# Altium footprint library 0.PCB1.PcbLib: 64 footprints (part 4 of 4)
Each footprint in its own frame and in the unit in brackets; x right, y up, seen from the top. Pads: shape width x height; smd on the part's side, far side on the other; paste and mask are expansions set on the pad; w line width, h text height; cw(c..) or ccw(c..) is an arc to the next point about the centre after c.
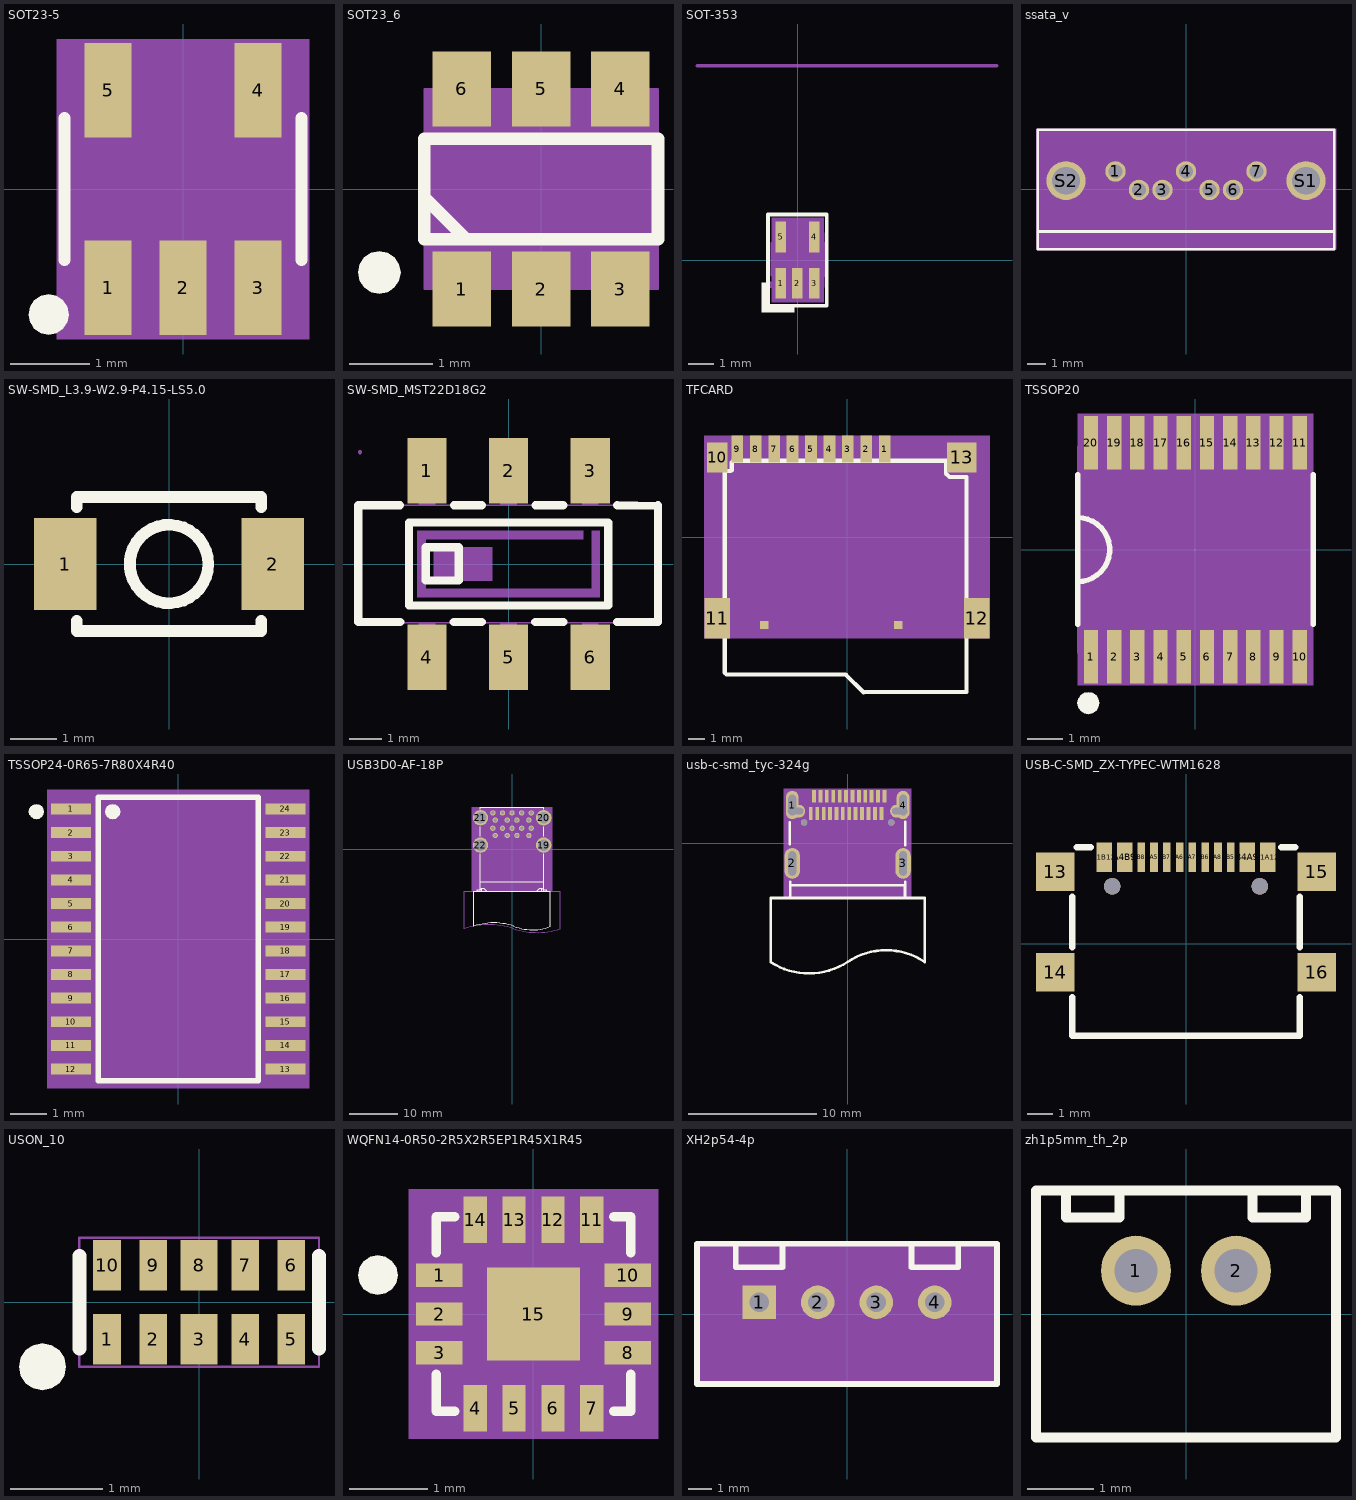
[diagram p3: the footprints below, top view; thin cyan lines are the x and y axes]

## SOT23-5 [mm] "SOT23-5"
pads (5):
  rect 0.599x1.199 smd: 1(-0.95,-1.25) 2(0,-1.25) 3(0.95,-1.25) 4(0.95,1.25) 5(-0.95,1.25)
Top Overlay:
  dashed: -1.702,-1.336 -1.799,-1.355 -1.882,-1.411 -1.937,-1.493 -1.957,-1.591 -1.937,-1.688 -1.919,-1.716 -1.882,-1.771 -1.799,-1.826 -1.702,-1.846 -1.604,-1.826 -1.522,-1.771 -1.485,-1.716 -1.466,-1.688 -1.447,-1.591 -1.466,-1.493 -1.522,-1.411 -1.604,-1.355
  lines w0.15: -1.5,-0.9 -1.5,0.9 ; 1.5,-0.9 1.5,0.9
Top 3D Body:
  region: -1.6,1.9 -1.6,-1.9 1.6,-1.9 1.6,1.9
Top Assembly:
  lines w0.15: -1.5,-0.85 1.5,-0.85 1.5,0.85 -1.5,0.85 -1.5,-0.85
3D body: height 3.81, standoff 0, extent -1.6,-1.9 1.6,1.9

## SOT23_6 [mm] "SOT23_6"
pads (6):
  rect 0.7x0.9 smd: 1(-0.95,-1.2) 2(0,-1.2) 3(0.95,-1.2) 4(0.95,1.2) 5(0,1.2) 6(-0.95,1.2)
Top Overlay:
  dashed: -2.195,-1 -2.176,-1.098 -2.12,-1.18 -2.038,-1.236 -1.94,-1.255 -1.842,-1.236 -1.815,-1.217 -1.76,-1.18 -1.704,-1.098 -1.685,-1 -1.704,-0.902 -1.76,-0.82 -1.815,-0.783 -1.842,-0.764 -1.94,-0.745 -2.038,-0.764 -2.12,-0.82 -2.176,-0.902
  lines w0.15: -1.4,-0.1 -0.9,-0.6 ; -1.4,-0.6 -1.4,0.6 1.4,0.6 1.4,-0.6 -1.4,-0.6
Top 3D Body:
  region: -1.4,-1.2 1.4,-1.2 1.4,1.2 -1.4,1.2
Top Assembly:
  lines w0.025: -1.4,-1.2 1.4,-1.2 1.4,1.2 -1.4,1.2 -1.4,-1.2
3D body: height 3.81, standoff 0, extent -1.4,-1.2 1.4,1.2

## SOT-353 [mil] "SOT-353"
pads (5):
  rect 16x47 smd: 1(-25.91,-35.43) 2(-0.32,-35.43) 3(25.28,-35.43) 4(25.28,35.43) 5(-25.91,35.43)
Top Overlay:
  dashed: -45.31,-35 -55.31,-35 -55.31,-80 -5.32,-80 -5.32,-70 -45.31,-70
  lines w6: -45.31,-70 -45.31,70 44.69,70 44.69,-70 -45.31,-70
Mechanical 5:
  dashed: -39.69,-65 39.69,-65 39.69,65 -39.69,65
Top 3D Body:
  region: -39.69,-65 39.69,-65 39.69,65 -39.69,65
Top Component Center:
  circle w1: c-0.32,0 r11.81
  circle w1: c-0.32,0 r11.81
  lines w1: -16.06,0 15.43,0 -16.06,0 ; -0.32,-15.75 -0.32,15.75 -0.32,-15.75
Mechanical 18:
  lines w5: -154.31,298 305.69,298
Top Assembly:
  circle w3.94: c-41.31,-38 r2.83
  lines w3.94: -32.31,-24 -32.31,-40.83 -20.32,-40.83 ; -31.5,26 -31.5,40.83 ; -31.5,41.83 -19.5,41.83 -19.5,26 ; -20.32,-40 -20.32,-25 ; -6.32,-24 -6.32,-40.83 5.68,-40.83 ; 5.68,-40 5.68,-24 ; 19.68,-24 19.68,-40.83 31.68,-40.83 ; 19.68,26 19.68,41 ; 19.68,41.83 31.68,41.83 31.68,26 ; 31.68,-40 31.68,-24 ; -39.31,-23.61 -39.31,25.61 40.69,25.61 40.69,-23.61 -39.31,-23.61
Bottom Assembly:
  lines w1: -39.31,-41 -39.31,42 40.69,42 40.69,-41 -39.31,-41
3D body: height 150, standoff 0, extent -39.69,-65 39.69,65

## ssata_v [mm] "SSATA_V"
pads (9):
  round 1.1 hole 0.75: 1(-3.81,0.95) 2(-2.54,-0.05) 3(-1.27,-0.05) 4(0,0.95) 5(1.27,-0.05) 6(2.54,-0.05) 7(3.81,0.95)
  round 2.1 hole 1.5: S1(6.48,0.45) S2(-6.48,0.45)
Top Overlay:
  lines w0.15: -8,-2.3 8,-2.3 ; -8,-3.25 -8,3.2 8,3.2 8,-3.25 -8,-3.25
Bottom Overlay:
  lines w0.3: -3.6,0.05 -2.8,0.85 ; -1,0.85 -0.2,0.05 0.2,0.05 1,0.85 ; 2.8,0.85 3.6,0.05
Top 3D Body:
  region: -8.1,3.25 -8.1,-3.25 8.1,-3.25 8.1,3.25
Top Assembly:
  lines w0.15: -8,3.2 -8,-3.25 8,-3.25 8,-2.3 ; -8,3.2 -8,-2.3 8,-2.3 ; -8,3.2 8,3.2 8,-2.3 ; -8,-1.55 -8,2.45 8,2.45 8,-1.55 -8,-1.55
3D body: height 3.81, standoff 0, extent -8.1,-3.25 8.1,3.25

## SW-SMD_L3.9-W2.9-P4.15-LS5.0 [mm]
pads (2):
  rect 1.35x2 smd paste+0 mask+0.051: 1(-2.25,0) 2(2.25,0)
Top Overlay:
  circle w0.254: c0,0 r0.85
  lines w0.254: -2,-1.231 -2,-1.45 2,-1.45 2,-1.231 ; -2,1.231 -2,1.45 2,1.45 2,1.231

## SW-SMD_MST22D18G2 [mm]
pads (6):
  rect 1.2x2 smd: 1(-2.5,2.85) 2(0,2.85) 3(2.5,2.85) 4(-2.5,-2.85) 5(0,-2.85) 6(2.5,-2.85)
Top Overlay:
  lines w0.254: -3.326,1.8 -4.6,1.8 -4.6,-1.778 -3.319,-1.778 ; -1.681,-1.778 -0.819,-1.778 ; -1.674,1.8 -0.826,1.8 ; 0.819,-1.778 1.681,-1.778 ; 0.826,1.8 1.674,1.8 ; 3.319,-1.778 4.572,-1.778 4.572,1.8 ; 3.326,1.8 4.572,1.778 ; -3.048,-1.27 -3.048,1.27 3.048,1.27 3.048,-1.27 -3.048,-1.27 ; -2.54,-0.508 -2.54,0.508 -1.524,0.508 -1.524,-0.508 -2.54,-0.508
Mechanical 6:
  region: -2.54,1.016 -2.794,1.016 -2.794,-1.016 2.794,-1.016 2.794,1.016 2.54,1.016 2.54,-0.762 -2.54,-0.762 -2.54,0.762 2.286,0.762 2.286,1.016
  region: -2.286,0.508 -2.286,-0.508 -0.508,-0.508 -0.508,0.508
Mechanical 15:
  region: -4.49,3.425 -4.49,3.45 -4.525,3.485 -4.575,3.485 -4.61,3.45 -4.61,3.425 -4.61,3.4 -4.575,3.365 -4.525,3.365 -4.49,3.4 -4.49,3.425
  region: -2.75,-2.635 -2.75,-1.79 -2.25,-1.79 -2.25,-2.635
  region: -2.75,-3.425 -2.75,-2.625 -2.25,-2.625 -2.25,-3.425
  region: 2.25,1.79 2.25,2.635 2.75,2.635 2.75,1.79
  region: 2.25,2.625 2.25,3.425 2.75,3.425 2.75,2.625
  region: -0.25,1.79 -0.25,2.635 0.25,2.635 0.25,1.79
  region: -0.25,2.625 -0.25,3.425 0.25,3.425 0.25,2.625
  region: -2.75,1.79 -2.75,2.635 -2.25,2.635 -2.25,1.79
  region: -2.75,2.625 -2.75,3.425 -2.25,3.425 -2.25,2.625
  region: 2.25,-2.635 2.25,-1.79 2.75,-1.79 2.75,-2.635
  region: 2.25,-3.425 2.25,-2.625 2.75,-2.625 2.75,-3.425
  region: -0.25,-2.635 -0.25,-1.79 0.25,-1.79 0.25,-2.635
  region: -0.25,-3.425 -0.25,-2.625 0.25,-2.625 0.25,-3.425
  lines w0.051: -4.55,-1.8 -4.55,1.8 4.55,1.8 4.55,-1.8 -4.55,-1.8

## TFCARD [mil] "TFCARD"
pads (15):
  rect 27.56x62.99 smd: 1(88.58,206.82) 2(45.27,206.82) 3(1.97,206.82) 4(-41.34,206.82) 5(-84.65,206.82) 6(-127.95,206.82) 7(-171.26,206.82) 8(-214.57,206.82) 9(-257.88,206.82)
  rect 47.24x70 smd: 10(-305.12,187.13)
  rect 60x95 smd: 11(-305.12,-190.82) 12(305.12,-190.82)
  rect 70x70 smd: 13(269.68,187.13)
  rect 19.68x19.68 smd: ""(-194.88,-206.57) ""(120.08,-206.57)
Top Overlay:
  lines w10: -289.12,155.18 -273.12,155.18 -271.12,157.18 -271.12,175.18 -267.12,179.18 232.88,179.18 232.88,149.18 240.88,141.18 280.88,141.18 280.88,-364.05 38.88,-364.82 -3.12,-322.82 -283.12,-322.82 -287.12,-318.82 -287.12,153.18 -289.12,155.18
Top 3D Body:
  region: -335.12,-238.31 335.12,-238.31 335.12,238.31 -335.12,238.31
3D body: height 150, standoff 0, extent -335.12,-238.31 335.12,238.31

## TSSOP20 [mm] "TSSOP20"
pads (20):
  rect 0.4x1.5 smd: 1(-2.925,-3) 2(-2.275,-3) 3(-1.625,-3) 4(-0.975,-3) 5(-0.325,-3) 6(0.325,-3) 7(0.975,-3) 8(1.625,-3) 9(2.275,-3) 10(2.925,-3) 11(2.925,3) 12(2.275,3) 13(1.625,3) 14(0.975,3) 15(0.325,3) 16(-0.325,3) 17(-0.975,3) 18(-1.625,3) 19(-2.275,3) 20(-2.925,3)
Top Overlay:
  dashed: -3,-4.606 -2.883,-4.583 -2.784,-4.516 -2.717,-4.417 -2.694,-4.3 -2.717,-4.183 -2.74,-4.15 -2.784,-4.084 -2.883,-4.017 -3,-3.994 -3.117,-4.017 -3.216,-4.084 -3.26,-4.15 -3.283,-4.183 -3.306,-4.3 -3.283,-4.417 -3.216,-4.516 -3.117,-4.583
  lines w0.15: -3.3,-2.1 -3.3,2.1 ; -3.3,-0.9 ccw(c-3.3,0) -3.3,0.9 ; 3.3,-2.1 3.3,2.1
Top 3D Body:
  region: -3.3,-3.8 3.3,-3.8 3.3,3.8 -3.3,3.8
Top Assembly:
  lines w0.025: -3.3,-2.9 -3.3,2.9 3.3,2.9 3.3,-2.9 -3.3,-2.9
3D body: height 3.81, standoff 0, extent -3.3,-3.8 3.3,3.8

## TSSOP24-0R65-7R80X4R40 [mm] "TSSOP24-0R65-7R80X4R40"
pads (24):
  rect 1.1x0.3 smd: 1(-2.95,3.575) 2(-2.95,2.925) 3(-2.95,2.275) 4(-2.95,1.625) 5(-2.95,0.975) 6(-2.95,0.325) 7(-2.95,-0.325) 8(-2.95,-0.975) 9(-2.95,-1.625) 10(-2.95,-2.275) 11(-2.95,-2.925) 12(-2.95,-3.575) 13(2.95,-3.575) 14(2.95,-2.925) 15(2.95,-2.275) 16(2.95,-1.625) 17(2.95,-0.975) 18(2.95,-0.325) 19(2.95,0.325) 20(2.95,0.975) 21(2.95,1.625) 22(2.95,2.275) 23(2.95,2.925) 24(2.95,3.575)
Top Overlay:
  dashed: -1.8,3.704 -1.878,3.688 -1.944,3.644 -1.988,3.578 -2.004,3.5 -1.988,3.422 -1.974,3.4 -1.944,3.356 -1.878,3.312 -1.8,3.296 -1.722,3.312 -1.656,3.356 -1.626,3.4 -1.612,3.422 -1.596,3.5 -1.612,3.578 -1.656,3.644 -1.722,3.688
  dashed: -3.9,3.704 -3.978,3.688 -4.044,3.644 -4.088,3.578 -4.104,3.5 -4.088,3.422 -4.074,3.4 -4.044,3.356 -3.978,3.312 -3.9,3.296 -3.822,3.312 -3.756,3.356 -3.726,3.4 -3.712,3.422 -3.696,3.5 -3.712,3.578 -3.756,3.644 -3.822,3.688
  lines w0.15: -2.2,-3.9 2.2,-3.9 2.2,3.9 -2.2,3.9 -2.2,-3.9
Top 3D Body:
  region: -3.6,4.1 -3.6,-4.1 3.6,-4.1 3.6,4.1
Top Assembly:
  lines w0.15: -3.2,-3.9 3.2,-3.9 3.2,3.9 -3.2,3.9 -3.2,-3.9
3D body: height 3.81, standoff 0, extent -3.6,-4.1 3.6,4.1

## USB3D0-AF-18P [mm] "USB3D0-AF-18P"
pads (22):
  round 1.1 hole 0.7: 1(-3.5,2.899) 2(-1.001,2.899) 3(1.001,2.899) 4(3.5,2.899) 5(4,4.401) 6(1.999,4.401) 7(0,4.401) 8(-1.999,4.401) 9(-4,4.401) 10(-3.5,6.1) 11(-1.001,6.1) 12(1.001,6.1) 13(3.5,6.1) 14(4,7.601) 15(1.999,7.601) 16(0,7.601) 17(-1.999,7.601) 18(-4,7.601)
  round 3.2 / inner round 1.524 / far side round 3.2 hole 2.4: 19(6.571,0.9) 20(6.571,6.58) 21(-6.571,6.58) 22(-6.571,0.9)
Top Overlay:
  lines w0.15: -7.257,-8.719 -6.284,-8.719 -6.284,-8.091 -5.86,-8.091 -5.235,-8.719 5.067,-8.719 ; -7.257,-8.388 -6.617,-8.388 -6.284,-8.056 ; -6.571,-0.931 -6.571,-3.299 -6.571,-4.379 -6.571,-8.719 -6.571,-6.719 6.571,-6.719 6.571,-8.719 6.571,-4.879 6.571,-3.999 6.571,-0.931 ; -6.571,2.732 -6.571,4.749 ; -6.571,8.411 -6.571,8.774 6.571,8.774 6.571,8.411 ; 5.169,-8.719 5.796,-8.091 6.218,-8.091 6.218,-8.719 7.193,-8.719 ; 6.218,-8.056 6.551,-8.388 7.193,-8.388 ; 6.571,2.732 6.571,4.749 ; -8,-16.019 cw(c-3.773,-28.033) 0.4,-15.999 ccw(c4.224,-6.389) 8,-16.019 8,-8.719 0,-8.719 -8,-8.719 -8,-16.019
  lines w0.254: -7.257,-8.719 -7.257,-8.388 ; 7.193,-8.719 7.193,-8.388
Bottom Overlay:
  drawing of 19 lines, arcs and shapes, not listed
Top 3D Body:
  region: -8.4,8.8 -8.4,-8.8 8.4,-8.8 8.4,8.8
Top Assembly:
  lines w0.15: -10,-16.519 cw(c-4.77,-32.788) 0.4,-16.499 ccw(c5.228,-2.363) 10,-16.519 10,-8.719 0,-8.719 -10,-8.719 -10,-16.519
3D body: height 3.81, standoff 0, extent -8.4,-8.8 8.4,8.8

## usb-c-smd_tyc-324g [mm] "USB-C-SMD_TYC-324G"
pads (32):
  oval 1x2.2 hole 1.6 slot 0.6 at 0 deg: 1(-4.32,2.99) 4(4.32,2.99)
  oval 1.2x2.4 / inner round 1.524 / far side oval 1.2x2.4 hole 1.9 slot 0.6 at 0 deg: 2(-4.32,-1.56) 3(4.32,-1.56)
  rect 0.3x1 smd: A1(-2.62,3.68) A2(-2.13,3.68) A3(-1.63,3.68) A4(-1.13,3.68) A5(-0.62,3.68) A6(-0.12,3.68) A7(0.38,3.68) A8(0.88,3.68) A9(1.37,3.68) A10(1.87,3.68) A11(2.37,3.68) A12(2.88,3.68) B1(2.63,2.34) B2(2.13,2.34) B3(1.63,2.34) B4(1.13,2.34) B5(0.62,2.34) B6(0.12,2.34) B7(-0.38,2.34) B8(-0.87,2.34) B9(-1.37,2.34) B10(-1.87,2.34) B11(-2.37,2.34) B12(-2.88,2.34)
  oval 1.5x1 hole 0.5 slot 1.2 at 0 deg: ""(-4.06,2.51) ""(4.06,2.51)
  round 0.5 hole 0.5 unplated: ""(-3.4,1.63) ""(3.4,1.63)
Top Overlay:
  lines w0.2: -4.5,-0.06 -4.5,1.65 ; -4.47,-3 -4.47,-3.26 ; 4.5,-2.98 4.5,-4.24 4.47,-4.26 ; 4.5,-0.14 4.5,1.67 ; 6,-9.26 6,-4.26 -6,-4.26 -6,-9.26 ccw(c-3.015,-4.643) 0,-9.24 cw(c3,-13.74) 6,-9.24 ; -4.47,-3.26 4.47,-3.26 4.47,-4.26 ; -4.47,-3.26 -4.47,-4.26 4.47,-4.26
Top 3D Body:
  region: -4.97,-4.24 4.97,-4.24 4.97,4.24 -4.97,4.24
3D body: height 3.81, standoff 0, extent -4.97,-4.24 4.97,4.24

## USB-C-SMD_ZX-TYPEC-WTM1628 [mm]
pads (18):
  rect 1.5x1.5 smd paste+0 mask+0.051: 13(-5.12,2.817) 14(-5.12,-1.113) 15(5.12,2.817) 16(5.12,-1.113)
  rect 0.6x1.15 smd paste+0 mask+0.051: A1B12(-3.2,3.392) A4B9(-2.4,3.392) B1A12(3.2,3.392) B4A9(2.4,3.392)
  rect 0.3x1.15 smd paste+0 mask+0.051: A5(-1.25,3.392) A6(-0.25,3.392) A7(0.25,3.392) A8(1.25,3.392) B5(1.75,3.392) B6(0.75,3.392) B7(-0.75,3.392) B8(-1.75,3.392)
  round 0.65 hole 0.65 unplated paste+0: ""(-2.89,2.249) ""(2.89,2.249)
Top Overlay:
  lines w0.254: -4.445,-2.094 -4.445,-3.593 4.455,-3.593 4.455,-2.094 ; -4.445,-0.132 -4.445,1.836 ; -4.268,3.773 -3.731,3.773 ; 3.731,3.773 4.268,3.773 ; 4.455,-0.132 4.455,1.836

## USON_10 [mm] "USON_10"
pads (10):
  rect 0.3x0.55 smd: 1(-1,-0.4) 2(-0.5,-0.4) 4(0.5,-0.4) 5(1,-0.4) 6(1,0.4) 7(0.5,0.4) 9(-0.5,0.4) 10(-1,0.4)
  rect 0.4x0.55 smd: 3(0,-0.4) 8(0,0.4)
Top Overlay:
  dashed: -1.445,-0.7 -1.465,-0.602 -1.52,-0.52 -1.602,-0.465 -1.7,-0.445 -1.798,-0.465 -1.825,-0.483 -1.88,-0.52 -1.935,-0.602 -1.955,-0.7 -1.935,-0.798 -1.88,-0.88 -1.825,-0.917 -1.798,-0.935 -1.7,-0.955 -1.602,-0.935 -1.52,-0.88 -1.465,-0.798
  lines w0.15: -1.3,-0.5 -1.3,0.5 ; 1.3,-0.5 1.3,0.5
Top 3D Body:
  lines w0.025: -1.3,-0.7 1.3,-0.7 1.3,0.7 -1.3,0.7 -1.3,-0.7

## WQFN14-0R50-2R5X2R5EP1R45X1R45 [mm] "WQFN14-0R50-2R5X2R5EP1R45X1R45"
pads (15):
  rect 0.6x0.3 smd: 1(-1.21,0.5) 2(-1.21,0) 3(-1.21,-0.5) 8(1.21,-0.5) 9(1.21,0) 10(1.21,0.5)
  rect 0.3x0.6 smd: 4(-0.75,-1.21) 5(-0.25,-1.21) 6(0.25,-1.21) 7(0.75,-1.21) 11(0.75,1.21) 12(0.25,1.21) 13(-0.25,1.21) 14(-0.75,1.21)
  rect 1.2x1.2 smd: 15(0,0)
Top Overlay:
  dashed: -1.745,0.5 -1.765,0.598 -1.82,0.68 -1.902,0.735 -2,0.755 -2.098,0.735 -2.125,0.717 -2.18,0.68 -2.235,0.598 -2.255,0.5 -2.235,0.402 -2.18,0.32 -2.125,0.283 -2.098,0.265 -2,0.245 -1.902,0.265 -1.82,0.32 -1.765,0.402
  lines w0.127: -1.25,-0.777 -1.25,-1.25 -1.016,-1.25 ; -1.25,0.789 -1.25,1.25 -1.016,1.25 ; 1.034,-1.25 1.25,-1.25 1.25,-0.777 ; 1.034,1.25 1.25,1.25 1.25,0.789
Top 3D Body:
  region: -1.6,1.6 -1.6,-1.6 1.6,-1.6 1.6,1.6
Top Assembly:
  lines w0.025: -1.51,-1.36 1.51,-1.36 1.51,1.36 -1.51,1.36 -1.51,-1.36
3D body: height 3.81, standoff 0, extent -1.6,-1.6 1.6,1.6

## XH2p54-4p [mm] "XH2P54-4P"
pads (4):
  rect 1.45x1.45 / inner round 1.524 / far side rect 1.45x1.45 hole 0.85: 1(-3.81,0.508)
  round 1.45 hole 0.85: 2(-1.27,0.508) 3(1.27,0.508)
  round 1.45 / inner round 1.524 / far side round 1.45 hole 0.85: 4(3.81,0.508)
Top Overlay:
  lines w0.254: -6.51,-3.032 -6.51,3.048 6.51,3.048 6.51,-3.032 -6.51,-3.032 ; -4.826,2.032 -4.826,3.048 -2.794,3.048 -2.794,2.032 -4.826,2.032 ; 2.794,2.032 2.794,3.048 4.826,3.048 4.826,2.032 2.794,2.032
Bottom Overlay:
  lines w0.6: -2.54,-0.092 -2.54,1.108 ; 0,-0.092 0,1.108 ; 2.54,-0.092 2.54,1.108
Top 3D Body:
  region: -6.477,-3.048 6.477,-3.048 6.477,3.048 -6.477,3.048
Top Assembly:
  lines w0.025: -6.477,-3.048 6.51,-3.048 6.51,3.048 -6.477,3.048 -6.477,-3.048
3D body: height 3.81, standoff 0, extent -6.477,-3.048 6.477,3.048

## zh1p5mm_th_2p [mm] "ZH1P5MM_TH_2P"
pads (2):
  round 1.05 hole 0.65: 1(-0.75,0.65) 2(0.75,0.65)
Top Overlay:
  lines w0.15: -1.8,1.85 -1.8,1.45 -1,1.45 -1,1.85 ; 1,1.85 1,1.45 1.8,1.45 1.8,1.85 ; -2.25,-1.85 2.25,-1.85 2.25,1.85 -2.25,1.85 -2.25,-1.85
Bottom Overlay:
  lines w0.3: 0,-0.15 0,1.45 ; -1.5,-0.15 -1.5,1.45 1.5,1.45 1.5,-0.15 -1.3,-0.15 -1.5,-0.15
Top 3D Body:
  lines w0.025: -2.2,-1.85 2.2,-1.85 2.2,1.85 -2.2,1.85 -2.2,-1.85